# EAGLE library part 6703 (library commodore)
PLA for the C= UltiMax
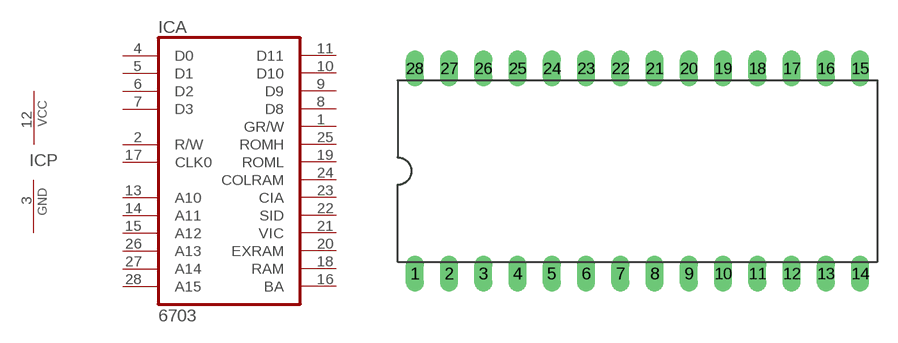
[diagram p49: symbol with the pads of DIL28; footprint DIL28]

Designator prefix IC; gates A=ULTIMAXPLA P=PWRN

## 6703  [DIL28]
1  A:GR/W  out
2  A:R/W  in
3  P:GND  pwr
4  A:D0  in
5  A:D1  in
6  A:D2  in
7  A:D3  in
8  A:D8  out
9  A:D9  out
10  A:D10  out
11  A:D11  out
12  P:VCC  pwr
13  A:A10  in
14  A:A11  in
15  A:A12  in
16  A:BA  in
17  A:CLK0  in
18  A:RAM  out
19  A:ROML  out
20  A:EXRAM  out
21  A:VIC  out
22  A:SID  out
23  A:CIA  out
24  A:COLRAM  out
25  A:ROMH  out
26  A:A13  in
27  A:A14  in
28  A:A15  in

## Footprint DIL28 (pad centres in mm)
Dual In Line Package
drill 0.813 long: 1 -16.51,-7.62; 2 -13.97,-7.62; 3 -11.43,-7.62; 4 -8.89,-7.62; 5 -6.35,-7.62; 6 -3.81,-7.62; 7 -1.27,-7.62; 8 1.27,-7.62; 9 3.81,-7.62; 10 6.35,-7.62; 11 8.89,-7.62; 12 11.43,-7.62; 13 13.97,-7.62; 14 16.51,-7.62; 15 16.51,7.62; 16 13.97,7.62; 17 11.43,7.62; 18 8.89,7.62; 19 6.35,7.62; 20 3.81,7.62; 21 1.27,7.62; 22 -1.27,7.62; 23 -3.81,7.62; 24 -6.35,7.62; 25 -8.89,7.62; 26 -11.43,7.62; 27 -13.97,7.62; 28 -16.51,7.62